# Altium schematic symbol library TLV75712PDBVR.SchLib: 1 symbol
Pins are listed as number, name and electrical type; pins without a type are passive.

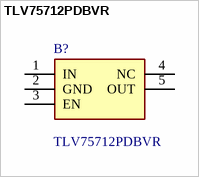
[diagram p0: symbol TLV75712PDBVR]

## TLV75712PDBVR
designator B?
1A Low-Quiescent-Current Low-Dropout (LDO) Regulator; Manufacturer_Name: Texas Instruments; Geometry.Height: 1.45mm; Manufacturer_Part_Number: TLV75712PDBVR; Mouser Part Number: 595-TLV75712PDBVR; Mouser Price/Stock: https://www.mouser.co.uk/ProductDetail/Texas-Instruments/TLV75712PDBVR?qs=y6ZabgHbY%252ByWtZe7nf7lPQ%3D%3D; Arrow Part Number: TLV75712PDBVR; Arrow Price/Stock: https://www.arrow.com/en/products/tlv75712pdbvr/texas-instruments?region=nac; Datasheet Link: http://www.ti.com/lit/gpn/tlv757p
footprint SOT95P280X145-5N
pins: 1 IN, 2 GND, 3 EN, 4 NC, 5 OUT